# Altium schematic symbol library IC_Vishay_SIA519EDJ-T1-GE3_eec.SchLib: 1 symbol
Pins are listed as number, name and electrical type; pins without a type are passive.

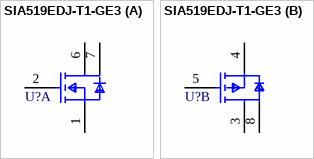
[diagram p0: symbol SIA519EDJ-T1-GE3]

## SIA519EDJ-T1-GE3
designator U?  (value not drawn)
part A pins: 1 S1, 2 G1, 6 D1, 7 D1
part B pins: 3 D2, 4 S2, 5 G2, 8 D2